# EAGLE library part MC14094 (library candrian)
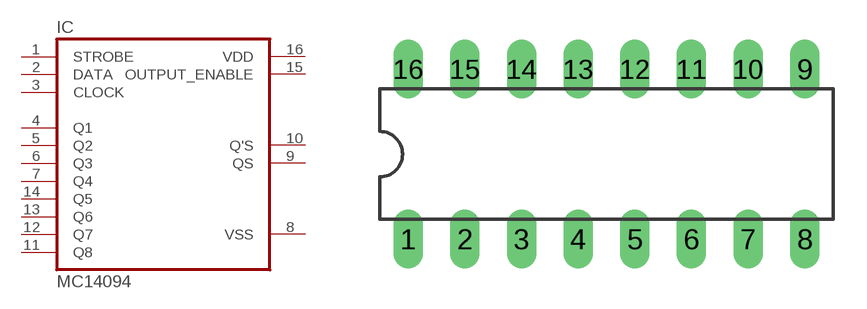
[diagram p16: symbol with the pads of DIL16; footprint DIL16]

Designator prefix IC

## MC14094  [DIL16]
1  STROBE  in
2  DATA  in
3  CLOCK  in
4  Q1  in
5  Q2  pas
6  Q3  pas
7  Q4  pas
8  VSS  oc
9  QS  oc
10  Q'S  oc
11  Q8  oc
12  Q7  oc
13  Q6  oc
14  Q5  pas
15  OUTPUT_ENABLE  oc
16  VDD  oc

## Footprint DIL16 (pad centres in mm)
drill 0.813 long: 1 -7.62,-3.81; 2 -5.08,-3.81; 3 -2.54,-3.81; 4 0,-3.81; 5 2.54,-3.81; 6 5.08,-3.81; 7 7.62,-3.81; 8 10.16,-3.81; 9 10.16,3.81; 10 7.62,3.81; 11 5.08,3.81; 12 2.54,3.81; 13 0,3.81; 14 -2.54,3.81; 15 -5.08,3.81; 16 -7.62,3.81